# Altium footprint library K103K10X7RF53L2.PcbLib: 1 footprints
Each footprint in its own frame and in the unit in brackets; x right, y up, seen from the top. Pads: shape width x height; smd on the part's side, far side on the other; paste and mask are expansions set on the pad; w line width, h text height; cw(c..) or ccw(c..) is an arc to the next point about the centre after c.
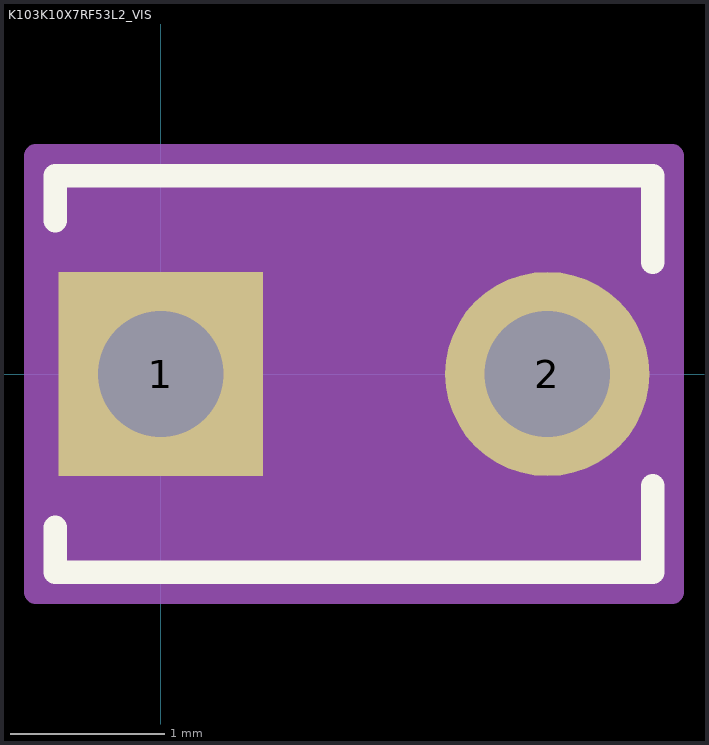
[diagram p0: the footprint, top view; thin cyan lines are the x and y axes]

## K103K10X7RF53L2_VIS [mil]
pads (2):
  rect 52x52 / inner round 60 / far side rect 52x52 hole 32 paste-99999 mask+0: 1(0,0)
  round 52 / inner round 60 / far side round 52 hole 32 paste-99999 mask+0: 2(98.43,0)
Top Overlay:
  lines w6: -26.79,-39.08 -26.79,-50.5 125.21,-50.5 125.21,-28.48 ; -26.79,39.08 -26.79,50.5 125.21,50.5 125.21,28.48
Mechanical 13:
  lines w1: -21.79,-45.5 120.21,-45.5 120.21,45.5 -21.79,45.5 -21.79,-45.5
Mechanical 15:
  region: 130.21,-55.5 -31.79,-55.5 -31.79,55.5 130.21,55.5
  lines w6: -31.79,-55.5 -31.79,55.5 130.21,55.5 130.21,-55.5 -31.79,-55.5
3D body "K103K10X7RF53L2_VIS.step": height 142.01, standoff -165.98, extent -32.99,-45.51 109.41,45.51